# Altium schematic symbol library Q_NFET_3pin_ESD.Schlib: 1 symbol
Pins are listed as number, name and electrical type; pins without a type are passive.

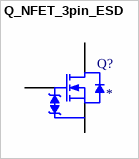
[diagram p0: symbol Q_NFET_3pin_ESD]

## Q_NFET_3pin_ESD
designator Q?
NFET
pins: DRAIN D, GATE G, SOURCE S